# Altium integrated library AHT10 Module.IntLib: 1 symbol
Pins are listed as number, name and electrical type; pins without a type are passive.

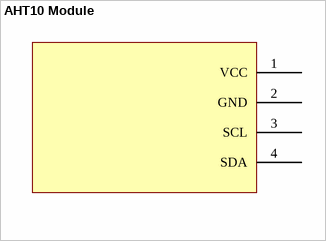
[diagram p0: symbol AHT10 Module]

## AHT10 Module
designator ?
footprint AHT10 Module
pins: 1 VCC, 2 GND, 3 SCL, 4 SDA